# Altium footprint library SS12D07VG4 087.PcbLib: 1 footprints
Each footprint in its own frame and in the unit in brackets; x right, y up, seen from the top. Pads: shape width x height; smd on the part's side, far side on the other; paste and mask are expansions set on the pad; w line width, h text height; cw(c..) or ccw(c..) is an arc to the next point about the centre after c.
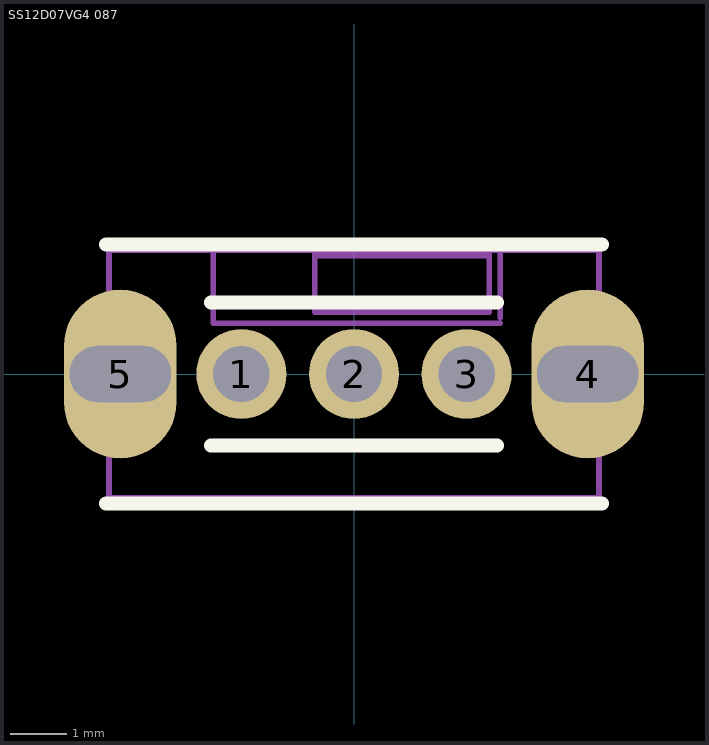
[diagram p0: the footprint, top view; thin cyan lines are the x and y axes]

## SS12D07VG4 087 [mm] "Slide Switches. SS12D07VG4 087"
pads (5):
  round 1.6 hole 1: 1(-2,0) 2(0,0) 3(2,0)
  oval 2x3 hole 1 slot 1.8 at 0 deg: 4(4.15,0) 5(-4.15,0)
Top Overlay:
  lines w0.254: -4.4,-2.3 4.4,-2.3 ; -4.4,2.3 4.4,2.3 ; -2.54,-1.27 2.54,-1.27 ; -2.54,1.27 2.54,1.27
Mechanical 13:
  lines w0.1: 2.6,0.9 2.5,0.9 -2.5,0.9 -2.5,2.3 -0.7,2.3 ; 2.6,1 2.6,2.3 2.4,2.3 ; -0.7,2.3 -0.7,1.1 2.4,1.1 2.4,2.3 ; -0.7,2.3 -0.7,2.1 2.4,2.1 2.4,2.3 ; -0.7,2.3 2.4,2.3 ; -4.35,-2.2 -4.35,2.2 4.35,2.2 4.35,-2.2 -4.35,-2.2
3D body "e6cc5c16d2214b3bbe8fba1a39141cda.step": height 0, standoff 0, extent -4.4,-2.3 4.4,2.3